# EAGLE library part BC-NBK (library 000001)
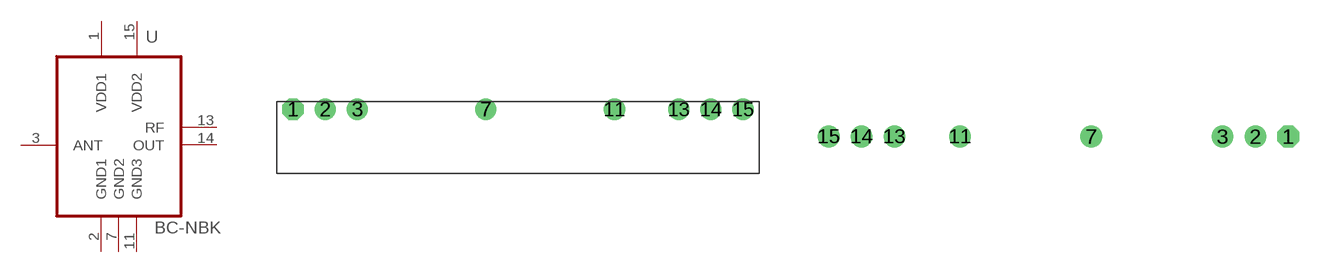
[diagram p65: symbol with the pads of BC-NBK; footprints BC-NBK, BC-NBK_2]

Designator prefix -

## BC-NBK  [BC-NBK]
1  VDD1  pwr
2  GND1  pwr
3  ANT  in
7  GND2  pwr
11  GND3  pwr
13  RF  out
14  OUT  out
15  VDD2  pwr

## BC-NBKK  [BC-NBK_2]
Pads as for BC-NBK

## Footprint BC-NBK (pad centres in mm)
drill 0.5 pad 1.676 octagon: 1 0,0
drill 0.5 pad 1.676 round: 2 2.54,0; 3 5.08,0; 7 15.24,0; 11 25.4,0; 13 30.48,0; 14 33.02,0; 15 35.56,0

## Footprint BC-NBK_2 (pad centres in mm)
drill 0.5 pad 1.676 octagon: 1 17.78,2.54
drill 0.5 pad 1.676 round: 2 15.24,2.54; 3 12.7,2.54; 7 2.54,2.54; 11 -7.62,2.54; 13 -12.7,2.54; 14 -15.24,2.54; 15 -17.78,2.54